# Altium schematic symbol library LM4040-SOT23.SchLib: 1 symbol
Pins are listed as number, name and electrical type; pins without a type are passive.

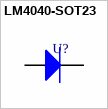
[diagram p0: symbol LM4040-SOT23]

## LM4040-SOT23
designator U?  (value not drawn)
pins: A, K